# EAGLE library part 690367190672 (library Wuerth_Elektronik_eiCan_MiniModule_Connectors_v1.2)
WR-MM Female Connector with Latch and without Polarization, 6 Pins
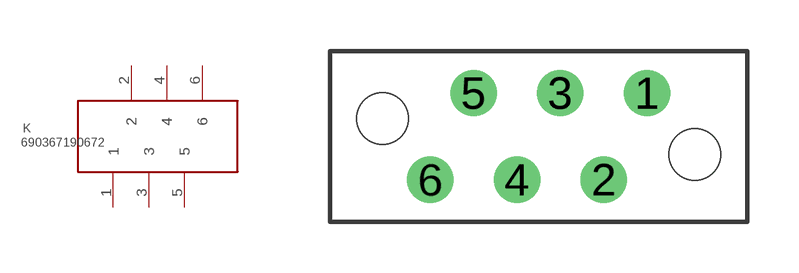
[diagram p44: symbol with the pads of 690367190672; footprint 690367190672]

Designator prefix K

## 690367190672  [690367190672]
1  1  pas
2  2  pas
3  3  pas
4  4  pas
5  5  pas
6  6  pas

## Footprint 690367190672 (pad centres in mm)
WR-MM Female Connector with Latch and without Polarization, 6 Pins
drill 0.85 round: 1 4.445,1.27; 2 3.175,-1.27; 3 1.905,1.27; 4 0.635,-1.27; 5 -0.635,1.27; 6 -1.905,-1.27
hole 1.5 at 5.845,-0.53
hole 1.5 at -3.305,0.53